# Altium schematic symbol library IMU.SchLib: 3 symbols
Pins are listed as number, name and electrical type; pins without a type are passive.

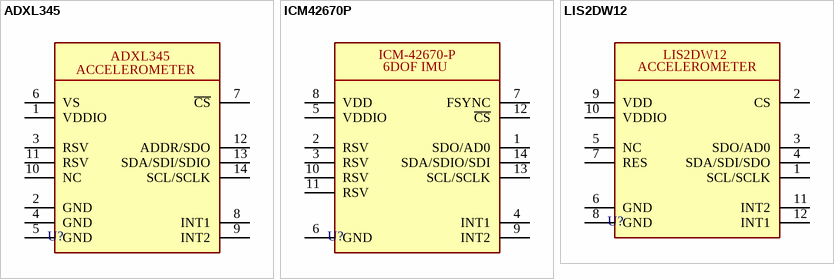
[diagram p0: symbols ADXL345 to LIS2DW12]

## ADXL345
designator U?
ACCEL 2-16G I2C/SPI 14LGA; Manufacturer 1: Analog Devices Inc.; Value: *; Manufacturer Part Number 1: *
footprint ADXL345 (ACCEL 2-16G I2C/SPI 14LGA)
pins: 1 VDDIO, 2 GND, 3 RSV, 4 GND, 5 GND, 6 VS, 7 ~{CS}, 8 INT1, 9 INT2, 10 NC, 11 RSV, 12 ADDR/SDO, 13 SDA/SDI/SDIO, 14 SCL/SCLK
text: ACCELEROMETER

## ICM42670P
designator U?
IMU ACCEL/GYRO/TEMP I2C/SPI; Manufacturer 1: TDK InvenSense; Value: *; Manufacturer Part Number 1: *
footprint ICM42670P (IMU ACCEL/GYRO/TEMP I2C/SPI)
pins: 1 SDO/AD0, 2 RSV, 3 RSV, 4 INT1, 5 VDDIO, 6 GND, 7 FSYNC, 8 VDD, 9 INT2, 10 RSV, 11 RSV, 12 ~{CS}, 13 SCL/SCLK, 14 SDA/SDIO/SDI
text: ICM-42670-P; 6DOF IMU

## LIS2DW12
designator U?
ACCEL 2-16G I2C/SPI 12LGA; Manufacturer 1: STMicroelectronics; Value: *; Manufacturer Part Number 1: *
footprint LIS2DW12 (ACCEL 2-16G I2C/SPI 12LGA)
pins: 1 SCL/SCLK, 2 CS, 3 SDO/AD0, 4 SDA/SDI/SDO, 5 NC, 6 GND, 7 RES, 8 GND, 9 VDD, 10 VDDIO, 11 INT2, 12 INT1
text: ACCELEROMETER